# Altium schematic symbol library Connector - Rectangular.SchLib: 115 symbols (part 2 of 2)
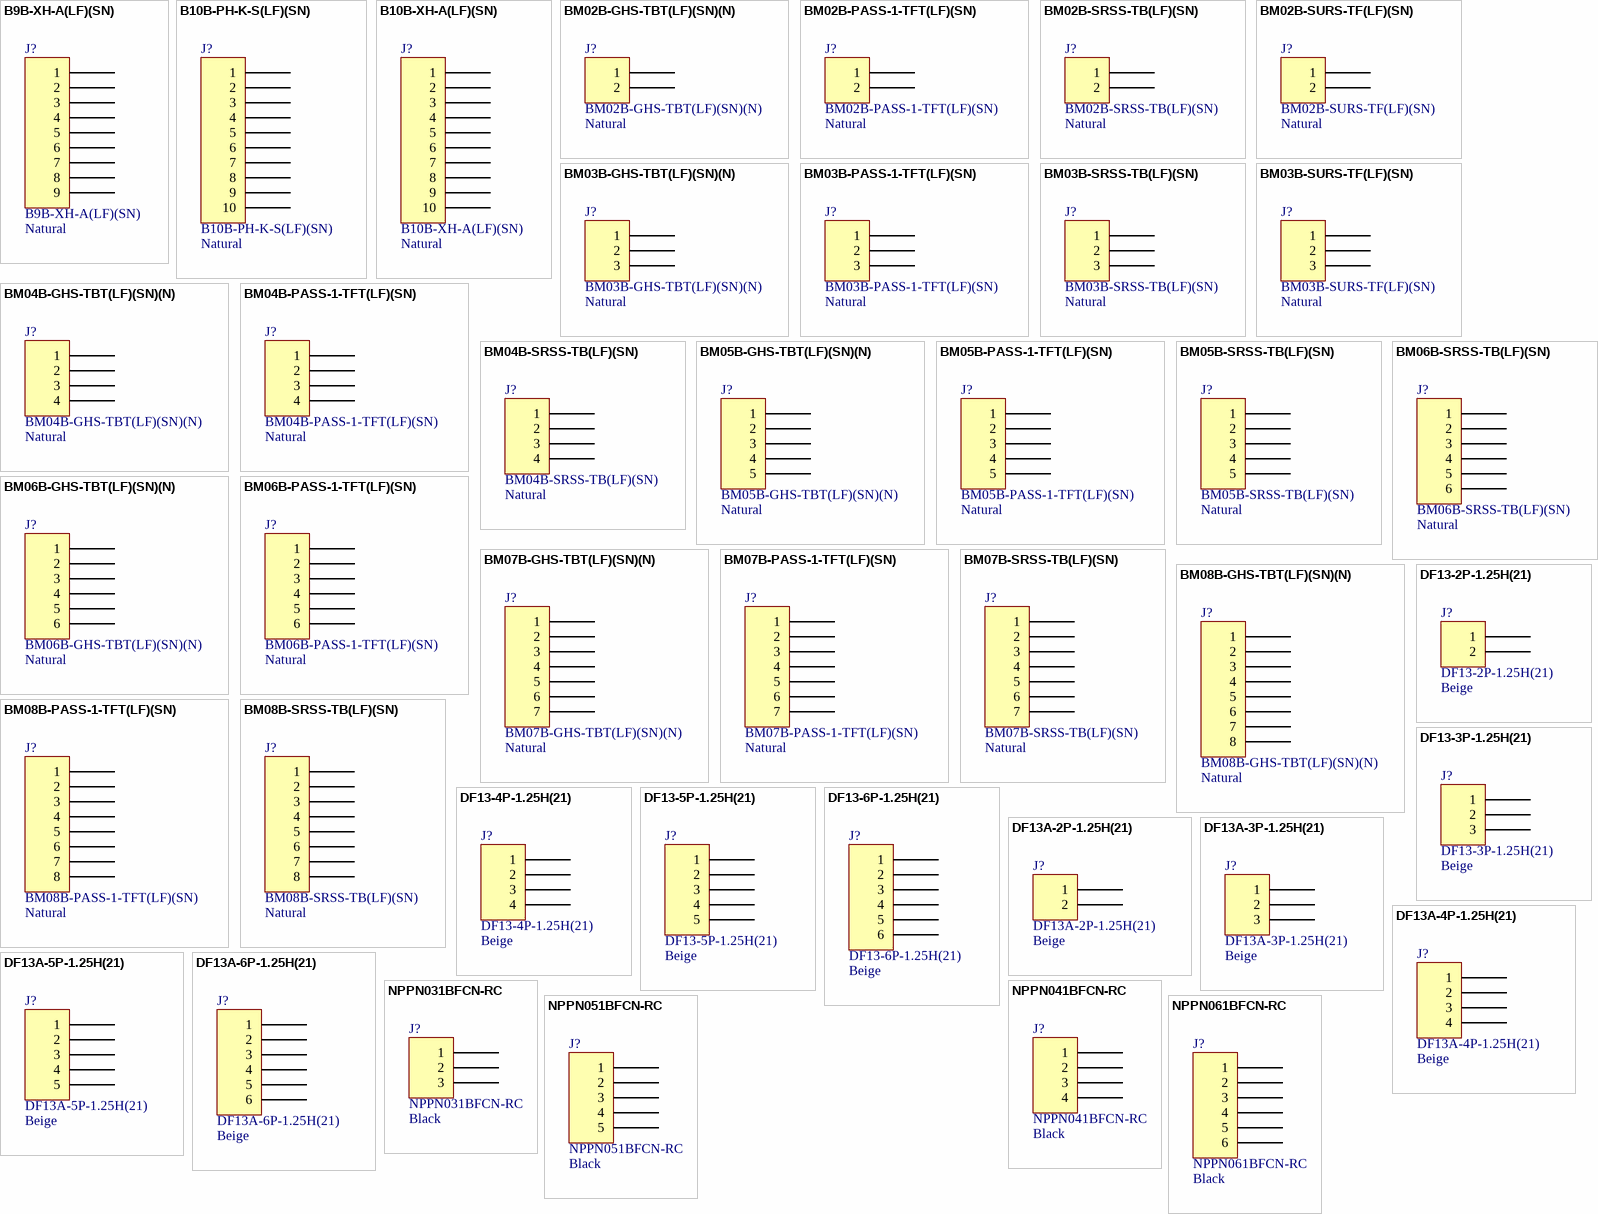
[diagram p3: symbols B9B-XH-A(LF)(SN) to NPPN061BFCN-RC]

## DF13A-3P-1.25H(21)
designator J?  Colour: Beige
CONN HDR 3POS 1.25MM R/A SMD; Manufacturer: Hirose Electric Co Ltd; Pitch: 0.049" (1.25mm); Number Of Positions: 3; Part Number: DF13A-3P-1.25H(21); PartId: 7795; Supplier 1: Digi-Key; Supplier Part Number 1: DF13A-3P-1.25H(21)-ND; ComponentLink1Description: Datasheet; ComponentLink1URL: http://www.hirose.co.jp/cataloge_hp/en_DF13_20130411.pdf; ComponentLink2Description: Digi-Key Listing; ComponentLink2URL: http://www.digikey.ca/product-detail/en/DF13A-3P-1.25H(21)/DF13A-3P-1.25H(21)-ND/4282219; Price: 0.3478; Type: Surface Mount, Right Angle; Number Of Rows: 1; Series: DF13
footprint HIROSE DF13A-3P-1.25H
pins: 1, 2, 3

## DF13A-4P-1.25H(21)
designator J?  Colour: Beige
CONN HDR 4POS 1.25MM R/A TIN; Manufacturer: Hirose Electric Co Ltd; Pitch: 0.049" (1.25mm); Number Of Positions: 4; Part Number: DF13A-4P-1.25H(21); PartId: 7797; Supplier 1: Digi-Key; Supplier Part Number 1: H125082-TR-ND; ComponentLink1Description: Datasheet; ComponentLink1URL: http://www.hirose.co.jp/cataloge_hp/en_DF13_20130411.pdf; ComponentLink2Description: Digi-Key Listing; ComponentLink2URL: http://www.digikey.ca/product-detail/en/DF13A-4P-1.25H(21)/H125082-TR-ND/4282224; Price: 0.4212; Type: Surface Mount, Right Angle; Number Of Rows: 1; Series: DF13
footprint HIROSE DF13A-4P-1.25H
pins: 1, 2, 3, 4

## DF13A-5P-1.25H(21)
designator J?  Colour: Beige
CONN HDR 5POS 1.25MM R/A SMD; Manufacturer: Hirose Electric Co Ltd; Pitch: 0.049" (1.25mm); Number Of Positions: 5; Part Number: DF13A-5P-1.25H(21); PartId: 7799; Supplier 1: Digi-Key; Supplier Part Number 1: DF13A-5P-1.25H(21)-ND; ComponentLink1Description: Datasheet; ComponentLink1URL: http://www.hirose.co.jp/cataloge_hp/en_DF13_20130411.pdf; ComponentLink2Description: Digi-Key Listing; ComponentLink2URL: http://www.digikey.ca/product-detail/en/DF13A-5P-1.25H(21)/DF13A-5P-1.25H(21)-ND/4282226; Price: 0.4591; Type: Surface Mount, Right Angle; Number Of Rows: 1; Series: DF13
footprint HIROSE DF13A-5P-1.25H
pins: 1, 2, 3, 4, 5

## DF13A-6P-1.25H(21)
designator J?  Colour: Beige
CONN HDR 6POS 1.25MM R/A TIN; Manufacturer: Hirose Electric Co Ltd; Pitch: 0.049" (1.25mm); Number Of Positions: 6; Part Number: DF13A-6P-1.25H(21); PartId: 7801; Supplier 1: Digi-Key; Supplier Part Number 1: DF13A-6P-1.25H(21)-ND; ComponentLink1Description: Datasheet; ComponentLink1URL: http://www.hirose.co.jp/cataloge_hp/en_DF13_20130411.pdf; ComponentLink2Description: Digi-Key Listing; ComponentLink2URL: http://www.digikey.ca/product-detail/en/DF13A-6P-1.25H(21)/DF13A-6P-1.25H(21)-ND/4282228; Price: 0.4969; Type: Surface Mount, Right Angle; Number Of Rows: 1; Series: DF13
footprint HIROSE DF13A-6P-1.25H
pins: 1, 2, 3, 4, 5, 6

## NPPN031BFCN-RC
designator J?  Colour: Black
CONN RECEPT 2MM SINGLE STR 3POS; Manufacturer: Sullins Connector Solutions; Pitch: 0.079" (2.00mm); Number Of Positions: 3; Part Number: NPPN031BFCN-RC; PartId: 10882; Supplier 1: Digi-Key; Supplier Part Number 1: S5751-03-ND; ComponentLink1Description: Datasheet; ComponentLink1URL: http://www.sullinscorp.com/drawings/75_1BFC_10483.pdf; ComponentLink2Description: Digi-Key Listing; ComponentLink2URL: http://www.digikey.com/product-detail/en/sullins-connector-solutions/NPPN031BFCN-RC/S5751-03-ND/804805; Price: 0.73; Type: Header; Contact Finish: Gold; Fastening Type: -; Number Of Rows: 1; Series: -
footprint SULLINS NPPN031BFCN
pins: 1, 2, 3

## NPPN041BFCN-RC
designator J?  Colour: Black
CONN RECEPT 2MM SINGLE STR 4POS; Manufacturer: Sullins Connector Solutions; Pitch: 0.079" (2.00mm); Number Of Positions: 4; Part Number: NPPN041BFCN-RC; PartId: 10883; Supplier 1: Digi-Key; Supplier Part Number 1: S5751-04-ND; ComponentLink1Description: Datasheet; ComponentLink1URL: http://www.sullinscorp.com/drawings/75_1BFC_10483.pdf; ComponentLink2Description: Digi-Key Listing; ComponentLink2URL: http://www.digikey.com/product-detail/en/sullins-connector-solutions/NPPN041BFCN-RC/S5751-04-ND/804806; Price: 0.89; Type: Header; Contact Finish: Gold; Fastening Type: -; Number Of Rows: 1; Series: -
footprint SULLINS NPPN041BFCN
pins: 1, 2, 3, 4

## NPPN051BFCN-RC
designator J?  Colour: Black
CONN RECEPT 2MM SINGLE STR 5POS; Manufacturer: Sullins Connector Solutions; Pitch: 0.079" (2.00mm); Number Of Positions: 5; Part Number: NPPN051BFCN-RC; PartId: 10884; Supplier 1: Digi-Key; Supplier Part Number 1: S5751-05-ND; ComponentLink1Description: Datasheet; ComponentLink1URL: http://www.sullinscorp.com/drawings/75_1BFC_10483.pdf; ComponentLink2Description: Digi-Key Listing; ComponentLink2URL: http://www.digikey.com/product-detail/en/sullins-connector-solutions/NPPN051BFCN-RC/S5751-05-ND/804807; Price: 0.88; Type: Header; Contact Finish: Gold; Fastening Type: -; Number Of Rows: 1; Series: -
footprint SULLINS NPPN051BFCN
pins: 1, 2, 3, 4, 5

## NPPN061BFCN-RC
designator J?  Colour: Black
CONN RECEPT 2MM SINGLE STR 6POS; Manufacturer: Sullins Connector Solutions; Pitch: 0.079" (2.00mm); Number Of Positions: 6; Part Number: NPPN061BFCN-RC; PartId: 10885; Supplier 1: Digi-Key; Supplier Part Number 1: S5751-06-ND; ComponentLink1Description: Datasheet; ComponentLink1URL: http://www.sullinscorp.com/drawings/75_1BFC_10483.pdf; ComponentLink2Description: Digi-Key Listing; ComponentLink2URL: http://www.digikey.com/product-detail/en/sullins-connector-solutions/NPPN061BFCN-RC/S5751-06-ND/804808; Price: 1.01; Type: Header; Contact Finish: Gold; Fastening Type: -; Number Of Rows: 1; Series: -
footprint SULLINS NPPN061BFCN
pins: 1, 2, 3, 4, 5, 6

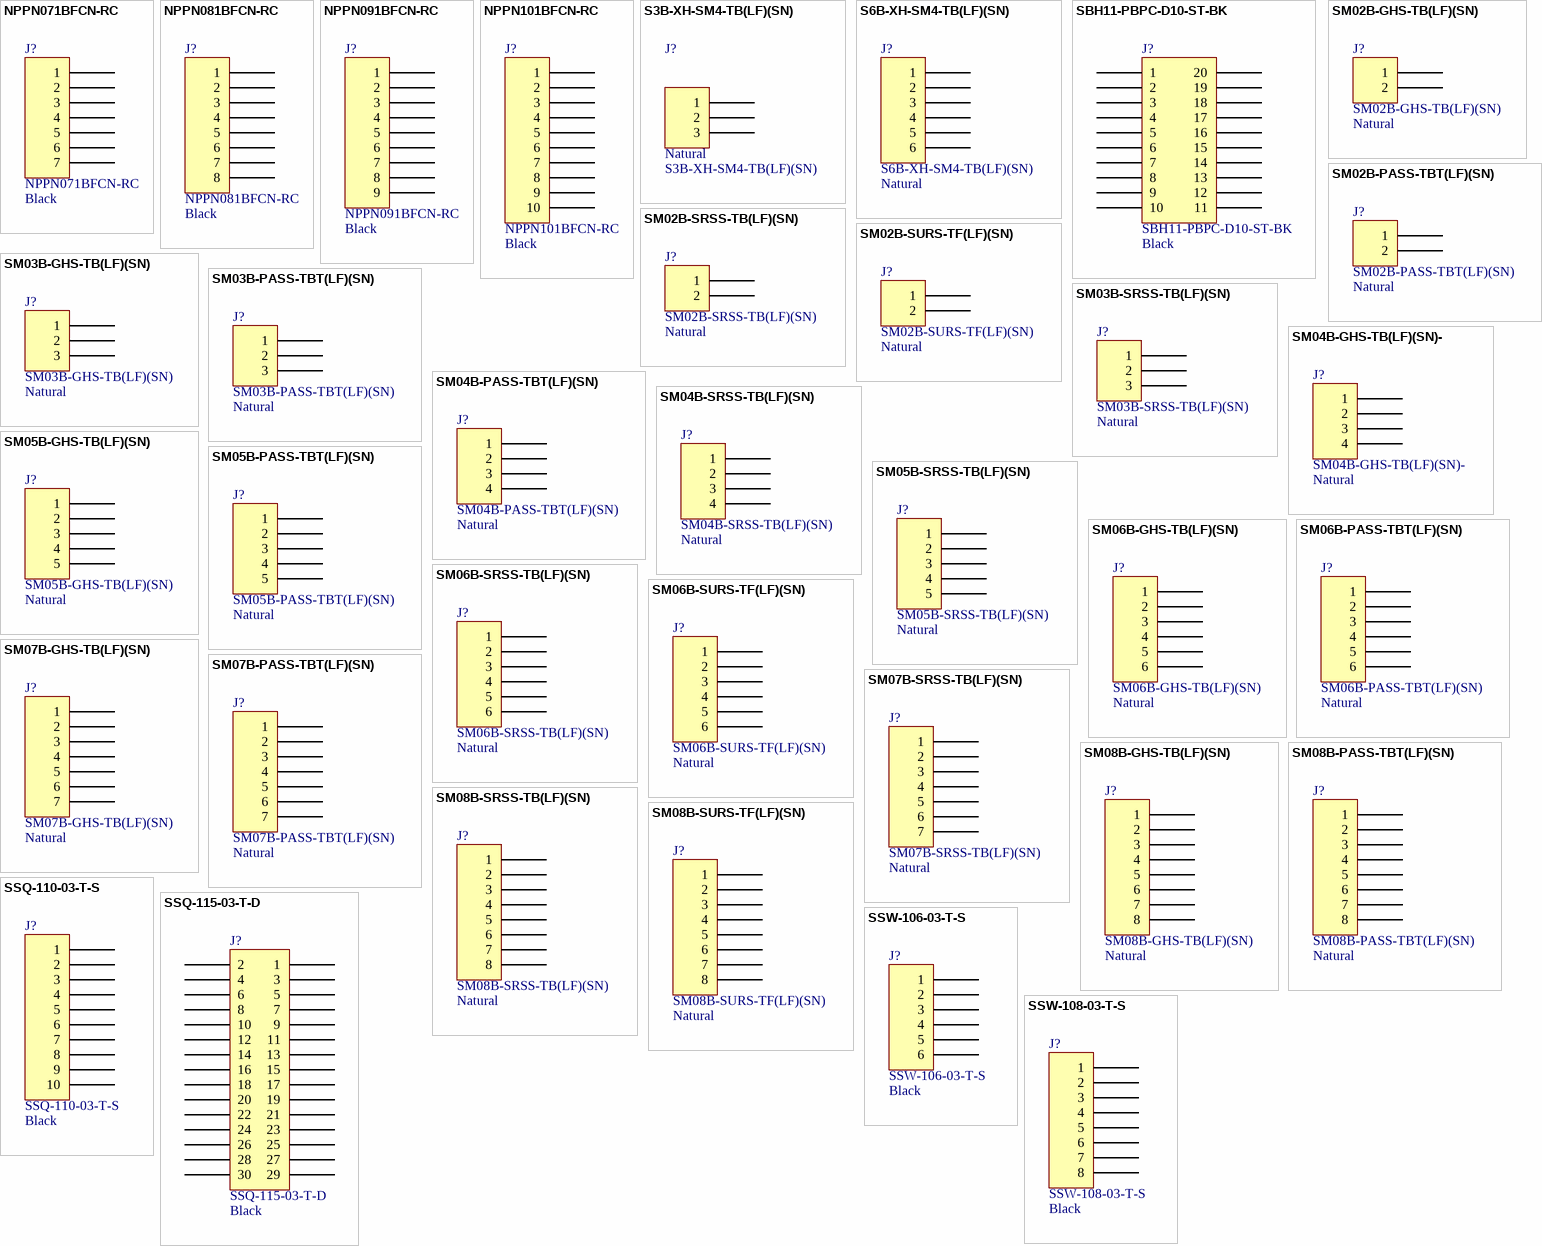
[diagram p2: symbols NPPN071BFCN-RC to SSW-108-03-T-S]

## NPPN071BFCN-RC
designator J?  Colour: Black
CONN RECEPT 2MM SINGLE STR 7POS; Manufacturer: Sullins Connector Solutions; Pitch: 0.079" (2.00mm); Number Of Positions: 7; Part Number: NPPN071BFCN-RC; PartId: 10886; Supplier 1: Digi-Key; Supplier Part Number 1: S5751-07-ND; ComponentLink1Description: Datasheet; ComponentLink1URL: http://www.sullinscorp.com/drawings/75_1BFC_10483.pdf; ComponentLink2Description: Digi-Key Listing; ComponentLink2URL: http://www.digikey.com/product-detail/en/sullins-connector-solutions/NPPN071BFCN-RC/S5751-07-ND/804809; Price: 1.04; Type: Header; Contact Finish: Gold; Fastening Type: -; Number Of Rows: 1; Series: -
footprint SULLINS NPPN071BFCN
pins: 1, 2, 3, 4, 5, 6, 7

## NPPN081BFCN-RC
designator J?  Colour: Black
CONN RECEPT 2MM SINGLE STR 8POS; Manufacturer: Sullins Connector Solutions; Pitch: 0.079" (2.00mm); Number Of Positions: 8; Part Number: NPPN081BFCN-RC; PartId: 10887; Supplier 1: Digi-Key; Supplier Part Number 1: S5751-08-ND; ComponentLink1Description: Datasheet; ComponentLink1URL: http://www.sullinscorp.com/drawings/75_1BFC_10483.pdf; ComponentLink2Description: Digi-Key Listing; ComponentLink2URL: http://www.digikey.com/product-detail/en/sullins-connector-solutions/NPPN081BFCN-RC/S5751-08-ND/804810; Price: 1.11; Type: Header; Contact Finish: Gold; Fastening Type: -; Number Of Rows: 1; Series: -
footprint SULLINS NPPN081BFCN
pins: 1, 2, 3, 4, 5, 6, 7, 8

## NPPN091BFCN-RC
designator J?  Colour: Black
CONN RECEPT 2MM SINGLE STR 9POS; Manufacturer: Sullins Connector Solutions; Pitch: 0.079" (2.00mm); Number Of Positions: 9; Part Number: NPPN091BFCN-RC; PartId: 10888; Supplier 1: Digi-Key; Supplier Part Number 1: S5751-09-ND; ComponentLink1Description: Datasheet; ComponentLink1URL: http://www.sullinscorp.com/drawings/75_1BFC_10483.pdf; ComponentLink2Description: Digi-Key Listing; ComponentLink2URL: http://www.digikey.com/product-detail/en/sullins-connector-solutions/NPPN091BFCN-RC/S5751-09-ND/804811; Price: 1.16; Type: Header; Contact Finish: Gold; Fastening Type: -; Number Of Rows: 1; Series: -
footprint SULLINS NPPN091BFCN
pins: 1, 2, 3, 4, 5, 6, 7, 8, 9

## NPPN101BFCN-RC
designator J?  Colour: Black
CONN RECEPT 2MM SINGLE STR 10POS; Manufacturer: Sullins Connector Solutions; Pitch: 0.079" (2.00mm); Number Of Positions: 10; Part Number: NPPN101BFCN-RC; PartId: 10889; Supplier 1: Digi-Key; Supplier Part Number 1: S5751-10-ND; ComponentLink1Description: Datasheet; ComponentLink1URL: http://www.sullinscorp.com/drawings/75_1BFC_10483.pdf; ComponentLink2Description: Digi-Key Listing; ComponentLink2URL: http://www.digikey.com/product-detail/en/sullins-connector-solutions/NPPN101BFCN-RC/S5751-10-ND/804812; Price: 1.23; Type: Header; Contact Finish: Gold; Fastening Type: -; Number Of Rows: 1; Series: -
footprint SULLINS NPPN101BFCN
pins: 1, 2, 3, 4, 5, 6, 7, 8, 9, 10

## S3B-XH-SM4-TB(LF)(SN)
designator J?  Colour: Natural
CONN HEADER XH TOP 3POS 2.5MM; Manufacturer: JST Sales America Inc.; Pitch: 0.098" (2.50mm); Number Of Positions: 6; Part Number: S3B-XH-SM4-TB(LF)(SN); Supplier 1: Digi-Key; Supplier Part Number 1: 455-2263-2-ND; ComponentLink1Description: Datasheet; ComponentLink1URL: http://www.jst-mfg.com/product/pdf/eng/eXH.pdf; ComponentLink2Description: Digi-Key Listing; ComponentLink2URL: https://www.digikey.com/product-detail/en/jst-sales-america-inc/S3B-XH-SM4-TB-LF-SN/455-2263-2-ND/1651065; Price: 1.03; Type: Header, Shrouded; Contact Finish: Tin; Fastening Type: Detent Lock; Number Of Rows: 1; Series: XH
footprint S3B-XH-SM4-TB (Footprint not found)
pins: 1, 2, 3

## S6B-XH-SM4-TB(LF)(SN)
designator J?  Colour: Natural
CONN HEADER XH TOP 6POS 2.5MM; Manufacturer: JST Sales America Inc.; Pitch: 0.098" (2.50mm); Number Of Positions: 6; Part Number: S6B-XH-SM4-TB(LF)(SN); Supplier 1: Digi-Key; Supplier Part Number 1: 455-2264-6-ND; ComponentLink1Description: Datasheet; ComponentLink1URL: http://www.jst-mfg.com/product/pdf/eng/eXH.pdf; ComponentLink2Description: Digi-Key Listing; ComponentLink2URL: https://www.digikey.com/product-detail/en/jst-sales-america-inc/S6B-XH-SM4-TB-LF-SN/455-2264-6-ND/1963638; Price: 1.03; Type: Header, Shrouded; Contact Finish: Tin; Fastening Type: Detent Lock; Number Of Rows: 1; Series: XH
footprint S6B-XH-SM4-TB
pins: 1, 2, 3, 4, 5, 6

## SBH11-PBPC-D10-ST-BK
designator J?  Colour: Black
CONN HEADER 2.54MM 20POS GOLD; Manufacturer: Sullins Connector Solutions; Pitch: 0.100" (2.54mm); Number Of Positions: 20; Part Number: SBH11-PBPC-D10-ST-BK; PartId: 16108; Supplier 1: Digi-Key; Supplier Part Number 1: S9172-ND; ComponentLink1Description: Datasheet; ComponentLink1URL: http://sullinscorp.com/catalogs/145_PAGE118_.100_SBH11_SERIES_MALE_BOX_HDR_ST_RA_SMT.pdf; ComponentLink2Description: Digi-Key Listing; ComponentLink2URL: http://www.digikey.ca/product-detail/en/sullins-connector-solutions/SBH11-PBPC-D10-ST-BK/S9172-ND/1990065; Price: 1; Type: Header, Shrouded; Contact Finish: Gold; Fastening Type: -; Number Of Rows: 2; Series: SBH11
footprint SULLINS SBH11-NBPC-D10-ST-BK
pins: 1, 2, 3, 4, 5, 6, 7, 8, 9, 10, 11, 12, 13, 14, 15, 16, 17, 18, 19, 20

## SM02B-GHS-TB(LF)(SN)
designator J?  Colour: Natural
CONN HEADER GH SIDE 2POS 1.25MM; Manufacturer: JST Sales America Inc.; Pitch: 0.049" (1.25mm); Number Of Positions: 2; Part Number: SM02B-GHS-TB(LF)(SN); PartId: 7817; Supplier 1: Digi-Key; Supplier Part Number 1: 455-1564-2-ND; ComponentLink1Description: Datasheet; ComponentLink1URL: http://www.jst-mfg.com/product/pdf/eng/eGH.pdf; ComponentLink2Description: Digi-Key Listing; ComponentLink2URL: http://www.digikey.ca/product-detail/en/SM02B-GHS-TB(LF)(SN)/455-1564-2-ND/807786; Price: 0.2487; Type: Surface Mount, Right Angle; Contact Finish: Tin; Fastening Type: Locking Ramp; Number Of Rows: 1; Series: GH
footprint JST SM02B-GHS-TB
pins: 1, 2

## SM02B-PASS-TBT(LF)(SN)
designator J?  Colour: Natural
CONN HEADER PA 2POS SIDE SMD; Manufacturer: JST Sales America Inc.; Pitch: 0.079" (2.00mm); Number Of Positions: 2; Part Number: SM02B-PASS-TBT(LF)(SN); PartId: 7856; Supplier 1: Digi-Key; Supplier Part Number 1: 455-2650-2-ND; ComponentLink1Description: Datasheet; ComponentLink1URL: http://www.jst-mfg.com/product/pdf/eng/ePA-F.pdf; ComponentLink2Description: Digi-Key Listing; ComponentLink2URL: http://www.digikey.ca/product-detail/en/SM02B-PASS-TBT(LF)(SN)/455-2650-2-ND/1788574; Price: 0.4208; Type: Surface Mount, Right Angle; Contact Finish: Tin; Fastening Type: Locking Ramp; Number Of Rows: 1; Series: PA
footprint JST SM02B-PASS-TB
pins: 1, 2

## SM02B-SRSS-TB(LF)(SN)
designator J?  Colour: Natural
CONN HEADER SH 2POS SIDE 1MM TIN; Manufacturer: JST Sales America Inc.; Pitch: 0.039" (1.00mm); Number Of Positions: 2; Part Number: SM02B-SRSS-TB(LF)(SN); PartId: 7831; Supplier 1: Digi-Key; Supplier Part Number 1: 455-1802-2-ND; ComponentLink1Description: Datasheet; ComponentLink1URL: http://www.jst-mfg.com/product/pdf/eng/eSH.pdf; ComponentLink2Description: Digi-Key Listing; ComponentLink2URL: http://www.digikey.ca/product-detail/en/SM02B-SRSS-TB(LF)(SN)/455-1802-2-ND/926708; Price: 0.2751; Type: Surface Mount, Right Angle; Contact Finish: Tin; Fastening Type: -; Number Of Rows: 1; Series: SR
footprint JST SM02B-SRSS-TB
pins: 1, 2

## SM02B-SURS-TF(LF)(SN)
designator J?  Colour: Natural
CONN HEADER 2POS .8MM TIN SIDE E; Manufacturer: JST Sales America Inc.; Pitch: 0.031" (0.80mm); Number Of Positions: 2; Part Number: SM02B-SURS-TF(LF)(SN); PartId: 7844; Supplier 1: Digi-Key; Supplier Part Number 1: 455-2039-2-ND; ComponentLink1Description: Datasheet; ComponentLink1URL: http://www.jst-mfg.com/product/pdf/eng/eSUR.pdf; ComponentLink2Description: Digi-Key Listing; ComponentLink2URL: http://www.digikey.ca/product-detail/en/SM02B-SURS-TF(LF)(SN)/455-2039-2-ND/1634780; Price: 0.3924; Type: Surface Mount, Right Angle; Contact Finish: Tin; Fastening Type: -; Number Of Rows: 1; Series: SUR
footprint JST SM02B-SURS-TF
pins: 1, 2

## SM03B-GHS-TB(LF)(SN)
designator J?  Colour: Natural
CONN HEADER GH SIDE 3POS 1.25MM; Manufacturer: JST Sales America Inc.; Pitch: 0.049" (1.25mm); Number Of Positions: 3; Part Number: SM03B-GHS-TB(LF)(SN); PartId: 7818; Supplier 1: Digi-Key; Supplier Part Number 1: 455-1565-2-ND; ComponentLink1Description: Datasheet; ComponentLink1URL: http://www.jst-mfg.com/product/pdf/eng/eGH.pdf; ComponentLink2Description: Digi-Key Listing; ComponentLink2URL: http://www.digikey.ca/product-detail/en/SM03B-GHS-TB(LF)(SN)/455-1565-2-ND/807787; Price: 0.2642; Type: Surface Mount, Right Angle; Contact Finish: Tin; Fastening Type: Locking Ramp; Number Of Rows: 1; Series: GH
footprint JST SM03B-GHS-TB
pins: 1, 2, 3

## SM03B-PASS-TBT(LF)(SN)
designator J?  Colour: Natural
CONN HEADER PA 3POS SIDE SMD; Manufacturer: JST Sales America Inc.; Pitch: 0.079" (2.00mm); Number Of Positions: 3; Part Number: SM03B-PASS-TBT(LF)(SN); PartId: 7857; Supplier 1: Digi-Key; Supplier Part Number 1: 455-2644-2-ND; ComponentLink1Description: Datasheet; ComponentLink1URL: http://www.jst-mfg.com/product/pdf/eng/ePA-F.pdf; ComponentLink2Description: Digi-Key Listing; ComponentLink2URL: http://www.digikey.ca/product-detail/en/SM03B-PASS-TBT(LF)(SN)/455-2644-2-ND/2773426; Price: 0.5567; Type: Surface Mount, Right Angle; Contact Finish: Tin; Fastening Type: Locking Ramp; Number Of Rows: 1; Series: PA
footprint JST SM03B-PASS-TB
pins: 1, 2, 3

## SM03B-SRSS-TB(LF)(SN)
designator J?  Colour: Natural
CONN HEADER SH 3POS SIDE 1MM TIN; Manufacturer: JST Sales America Inc.; Pitch: 0.039" (1.00mm); Number Of Positions: 3; Part Number: SM03B-SRSS-TB(LF)(SN); PartId: 7832; Supplier 1: Digi-Key; Supplier Part Number 1: 455-1803-2-ND; ComponentLink1Description: Datasheet; ComponentLink1URL: http://www.jst-mfg.com/product/pdf/eng/eSH.pdf; ComponentLink2Description: Digi-Key Listing; ComponentLink2URL: http://www.digikey.ca/product-detail/en/SM03B-SRSS-TB(LF)(SN)/455-1803-2-ND/926709; Price: 0.3069; Type: Surface Mount, Right Angle; Contact Finish: Tin; Fastening Type: -; Number Of Rows: 1; Series: SR
footprint JST SM03B-SRSS-TB
pins: 1, 2, 3

## SM04B-GHS-TB(LF)(SN)-
designator J?  Colour: Natural
CONN HEADER GH SIDE 4POS 1.25MM; Manufacturer: JST Sales America Inc.; Pitch: 0.049" (1.25mm); Number Of Positions: 4; Part Number: SM04B-GHS-TB(LF)(SN)-; PartId: 7821; Supplier 1: Digi-Key; Supplier Part Number 1: 455-1566-2-ND; ComponentLink1Description: Datasheet; ComponentLink1URL: http://www.jst-mfg.com/product/pdf/eng/eGH.pdf; ComponentLink2Description: Digi-Key Listing; ComponentLink2URL: http://www.digikey.ca/product-detail/en/SM04B-GHS-TB(LF)(SN)-/455-1566-2-ND/807788; Price: 0.2802; Type: Surface Mount, Right Angle; Contact Finish: Tin; Fastening Type: Locking Ramp; Number Of Rows: 1; Series: GH
footprint JST SM04B-GHS-TB
pins: 1, 2, 3, 4

## SM04B-PASS-TBT(LF)(SN)
designator J?  Colour: Natural
CONN HEADER PA 4POS SIDE SMD; Manufacturer: JST Sales America Inc.; Pitch: 0.079" (2.00mm); Number Of Positions: 4; Part Number: SM04B-PASS-TBT(LF)(SN); PartId: 7858; Supplier 1: Digi-Key; Supplier Part Number 1: 455-2645-2-ND; ComponentLink1Description: Datasheet; ComponentLink1URL: http://www.jst-mfg.com/product/pdf/eng/ePA-F.pdf; ComponentLink2Description: Digi-Key Listing; ComponentLink2URL: http://www.digikey.ca/product-detail/en/SM04B-PASS-TBT(LF)(SN)/455-2645-2-ND/2773427; Price: 0.5853; Type: Surface Mount, Right Angle; Contact Finish: Tin; Fastening Type: Locking Ramp; Number Of Rows: 1; Series: PA
footprint JST SM04B-PASS-TB
pins: 1, 2, 3, 4

## SM04B-SRSS-TB(LF)(SN)
designator J?  Colour: Natural
CONN HEADER SH 4POS SIDE 1MM TIN; Manufacturer: JST Sales America Inc.; Pitch: 0.039" (1.00mm); Number Of Positions: 4; Part Number: SM04B-SRSS-TB(LF)(SN); PartId: 7835; Supplier 1: Digi-Key; Supplier Part Number 1: 455-1804-2-ND; ComponentLink1Description: Datasheet; ComponentLink1URL: http://www.jst-mfg.com/product/pdf/eng/eSH.pdf; ComponentLink2Description: Digi-Key Listing; ComponentLink2URL: http://www.digikey.ca/product-detail/en/SM04B-SRSS-TB(LF)(SN)/455-1804-2-ND/926710; Price: 0.3531; Type: Surface Mount, Right Angle; Contact Finish: Tin; Fastening Type: -; Number Of Rows: 1; Series: SR
footprint JST SM04B-SRSS-TB
pins: 1, 2, 3, 4

## SM05B-GHS-TB(LF)(SN)
designator J?  Colour: Natural
CONN HEADER GH SIDE 5POS 1.25MM; Manufacturer: JST Sales America Inc.; Pitch: 0.049" (1.25mm); Number Of Positions: 5; Part Number: SM05B-GHS-TB(LF)(SN); PartId: 7823; Supplier 1: Digi-Key; Supplier Part Number 1: 455-1567-2-ND; ComponentLink1Description: Datasheet; ComponentLink1URL: http://www.jst-mfg.com/product/pdf/eng/eGH.pdf; ComponentLink2Description: Digi-Key Listing; ComponentLink2URL: http://www.digikey.ca/product-detail/en/SM05B-GHS-TB(LF)(SN)/455-1567-2-ND/807789; Price: 0.295; Type: Surface Mount, Right Angle; Contact Finish: Tin; Fastening Type: Locking Ramp; Number Of Rows: 1; Series: GH
footprint JST SM05B-GHS-TB
pins: 1, 2, 3, 4, 5

## SM05B-PASS-TBT(LF)(SN)
designator J?  Colour: Natural
CONN HEADER PA 5POS SIDE SMD; Manufacturer: JST Sales America Inc.; Pitch: 0.079" (2.00mm); Number Of Positions: 5; Part Number: SM05B-PASS-TBT(LF)(SN); PartId: 7859; Supplier 1: Digi-Key; Supplier Part Number 1: 455-2646-2-ND; ComponentLink1Description: Datasheet; ComponentLink1URL: http://www.jst-mfg.com/product/pdf/eng/ePA-F.pdf; ComponentLink2Description: Digi-Key Listing; ComponentLink2URL: http://www.digikey.ca/product-detail/en/SM05B-PASS-TBT(LF)(SN)/455-2646-2-ND/2773428; Price: 0.6001; Type: Surface Mount, Right Angle; Contact Finish: Tin; Fastening Type: Locking Ramp; Number Of Rows: 1; Series: PA
footprint JST SM05B-PASS-TB
pins: 1, 2, 3, 4, 5

## SM05B-SRSS-TB(LF)(SN)
designator J?  Colour: Natural
CONN HEADER SH 5POS SIDE 1MM TIN; Manufacturer: JST Sales America Inc.; Pitch: 0.039" (1.00mm); Number Of Positions: 5; Part Number: SM05B-SRSS-TB(LF)(SN); PartId: 7836; Supplier 1: Digi-Key; Supplier Part Number 1: 455-1805-2-ND; ComponentLink1Description: Datasheet; ComponentLink1URL: http://www.jst-mfg.com/product/pdf/eng/eSH.pdf; ComponentLink2Description: Digi-Key Listing; ComponentLink2URL: http://www.digikey.ca/product-detail/en/SM05B-SRSS-TB(LF)(SN)/455-1805-2-ND/926711; Price: 0.4383; Type: Surface Mount, Right Angle; Contact Finish: Tin; Fastening Type: -; Number Of Rows: 1; Series: SR
footprint JST SM05B-SRSS-TB
pins: 1, 2, 3, 4, 5

## SM06B-GHS-TB(LF)(SN)
designator J?  Colour: Natural
CONN HEADER GH SIDE 6POS 1.25MM; Manufacturer: JST Sales America Inc.; Pitch: 0.049" (1.25mm); Number Of Positions: 6; Part Number: SM06B-GHS-TB(LF)(SN); PartId: 7825; Supplier 1: Digi-Key; Supplier Part Number 1: 455-1568-2-ND; ComponentLink1Description: Datasheet; ComponentLink1URL: http://www.jst-mfg.com/product/pdf/eng/eGH.pdf; ComponentLink2Description: Digi-Key Listing; ComponentLink2URL: http://www.digikey.ca/product-detail/en/SM06B-GHS-TB(LF)(SN)/455-1568-2-ND/807790; Price: 0.3381; Type: Surface Mount, Right Angle; Contact Finish: Tin; Fastening Type: Locking Ramp; Number Of Rows: 1; Series: GH
footprint JST SM06B-GHS-TB
pins: 1, 2, 3, 4, 5, 6

## SM06B-PASS-TBT(LF)(SN)
designator J?  Colour: Natural
CONN HEADER PA 6POS SIDE SMD; Manufacturer: JST Sales America Inc.; Pitch: 0.079" (2.00mm); Number Of Positions: 6; Part Number: SM06B-PASS-TBT(LF)(SN); PartId: 7860; Supplier 1: Digi-Key; Supplier Part Number 1: 455-2647-2-ND; ComponentLink1Description: Datasheet; ComponentLink1URL: http://www.jst-mfg.com/product/pdf/eng/ePA-F.pdf; ComponentLink2Description: Digi-Key Listing; ComponentLink2URL: http://www.digikey.ca/product-detail/en/SM06B-PASS-TBT(LF)(SN)/455-2647-2-ND/2773429; Price: 0.6619; Type: Surface Mount, Right Angle; Contact Finish: Tin; Fastening Type: Locking Ramp; Number Of Rows: 1; Series: PA
footprint JST SM06B-PASS-TB
pins: 1, 2, 3, 4, 5, 6

## SM06B-SRSS-TB(LF)(SN)
designator J?  Colour: Natural
CONN HEADER SH 6POS SIDE 1MM TIN; Manufacturer: JST Sales America Inc.; Pitch: 0.039" (1.00mm); Number Of Positions: 6; Part Number: SM06B-SRSS-TB(LF)(SN); PartId: 7839; Supplier 1: Digi-Key; Supplier Part Number 1: 455-1806-2-ND; ComponentLink1Description: Datasheet; ComponentLink1URL: http://www.jst-mfg.com/product/pdf/eng/eSH.pdf; ComponentLink2Description: Digi-Key Listing; ComponentLink2URL: http://www.digikey.ca/product-detail/en/SM06B-SRSS-TB(LF)(SN)/455-1806-2-ND/926712; Price: 0.4855; Type: Surface Mount, Right Angle; Contact Finish: Tin; Fastening Type: -; Number Of Rows: 1; Series: SR
footprint JST SM06B-SRSS-TB
pins: 1, 2, 3, 4, 5, 6

## SM06B-SURS-TF(LF)(SN)
designator J?  Colour: Natural
CONN HEADER SUR 6POS .8MM IDC; Manufacturer: JST Sales America Inc.; Pitch: 0.031" (0.80mm); Number Of Positions: 6; Part Number: SM06B-SURS-TF(LF)(SN); PartId: 7847; Supplier 1: Digi-Key; Supplier Part Number 1: SM06B-SURS-TF(LF)(SN)-ND; ComponentLink1Description: Datasheet; ComponentLink1URL: http://www.jst-mfg.com/product/pdf/eng/eSUR.pdf; ComponentLink2Description: Digi-Key Listing; ComponentLink2URL: http://www.digikey.ca/product-detail/en/SM06B-SURS-TF(LF)(SN)/SM06B-SURS-TF(LF)(SN)-ND/1989313; Price: 0.59; Type: Surface Mount, Right Angle; Contact Finish: Tin; Fastening Type: -; Number Of Rows: 1; Series: SUR
footprint JST SM06B-SURS-TF
pins: 1, 2, 3, 4, 5, 6

## SM07B-GHS-TB(LF)(SN)
designator J?  Colour: Natural
CONN HEADER GH SIDE 7POS 1.25MM; Manufacturer: JST Sales America Inc.; Pitch: 0.049" (1.25mm); Number Of Positions: 7; Part Number: SM07B-GHS-TB(LF)(SN); PartId: 7826; Supplier 1: Digi-Key; Supplier Part Number 1: 455-1569-2-ND; ComponentLink1Description: Datasheet; ComponentLink1URL: http://www.jst-mfg.com/product/pdf/eng/eGH.pdf; ComponentLink2Description: Digi-Key Listing; ComponentLink2URL: http://www.digikey.ca/product-detail/en/SM07B-GHS-TB(LF)(SN)/455-1569-2-ND/807791; Price: 0.3513; Type: Surface Mount, Right Angle; Contact Finish: Tin; Fastening Type: Locking Ramp; Number Of Rows: 1; Series: GH
footprint JST SM07B-GHS-TB
pins: 1, 2, 3, 4, 5, 6, 7

## SM07B-PASS-TBT(LF)(SN)
designator J?  Colour: Natural
CONN HEADER PA 7POS SIDE SMD; Manufacturer: JST Sales America Inc.; Pitch: 0.079" (2.00mm); Number Of Positions: 7; Part Number: SM07B-PASS-TBT(LF)(SN); PartId: 7861; Supplier 1: Digi-Key; Supplier Part Number 1: 455-2648-2-ND; ComponentLink1Description: Datasheet; ComponentLink1URL: http://www.jst-mfg.com/product/pdf/eng/ePA-F.pdf; ComponentLink2Description: Digi-Key Listing; ComponentLink2URL: http://www.digikey.ca/product-detail/en/SM07B-PASS-TBT(LF)(SN)/455-2648-2-ND/2773430; Price: 0.7292; Type: Surface Mount, Right Angle; Contact Finish: Tin; Fastening Type: Locking Ramp; Number Of Rows: 1; Series: PA
footprint JST SM07B-PASS-TB
pins: 1, 2, 3, 4, 5, 6, 7

## SM07B-SRSS-TB(LF)(SN)
designator J?  Colour: Natural
CONN HEADER SH 7POS SIDE 1MM TIN; Manufacturer: JST Sales America Inc.; Pitch: 0.039" (1.00mm); Number Of Positions: 7; Part Number: SM07B-SRSS-TB(LF)(SN); PartId: 7840; Supplier 1: Digi-Key; Supplier Part Number 1: 455-1807-2-ND; ComponentLink1Description: Datasheet; ComponentLink1URL: http://www.jst-mfg.com/product/pdf/eng/eSH.pdf; ComponentLink2Description: Digi-Key Listing; ComponentLink2URL: http://www.digikey.ca/product-detail/en/SM07B-SRSS-TB(LF)(SN)/455-1807-2-ND/926713; Price: 0.5322; Type: Surface Mount, Right Angle; Contact Finish: Tin; Fastening Type: -; Number Of Rows: 1; Series: SR
footprint JST SM07B-SRSS-TB
pins: 1, 2, 3, 4, 5, 6, 7

## SM08B-GHS-TB(LF)(SN)
designator J?  Colour: Natural
CONN HEADER GH SIDE 8POS 1.25MM; Manufacturer: JST Sales America Inc.; Pitch: 0.049" (1.25mm); Number Of Positions: 8; Part Number: SM08B-GHS-TB(LF)(SN); PartId: 7828; Supplier 1: Digi-Key; Supplier Part Number 1: 455-1570-2-ND; ComponentLink1Description: Datasheet; ComponentLink1URL: http://www.jst-mfg.com/product/pdf/eng/eGH.pdf; ComponentLink2Description: Digi-Key Listing; ComponentLink2URL: http://www.digikey.ca/product-detail/en/SM08B-GHS-TB(LF)(SN)/455-1570-2-ND/807792; Price: 0.3767; Type: Surface Mount, Right Angle; Contact Finish: Tin; Fastening Type: Locking Ramp; Number Of Rows: 1; Series: GH
footprint JST SM08B-GHS-TB
pins: 1, 2, 3, 4, 5, 6, 7, 8

## SM08B-PASS-TBT(LF)(SN)
designator J?  Colour: Natural
CONN HEADER PA 8POS SIDE SMD; Manufacturer: JST Sales America Inc.; Pitch: 0.079" (2.00mm); Number Of Positions: 8; Part Number: SM08B-PASS-TBT(LF)(SN); PartId: 7862; Supplier 1: Digi-Key; Supplier Part Number 1: 455-2649-2-ND; ComponentLink1Description: Datasheet; ComponentLink1URL: http://www.jst-mfg.com/product/pdf/eng/ePA-F.pdf; ComponentLink2Description: Digi-Key Listing; ComponentLink2URL: http://www.digikey.ca/product-detail/en/SM08B-PASS-TBT(LF)(SN)/455-2649-2-ND/2773431; Price: 0.7931; Type: Surface Mount, Right Angle; Contact Finish: Tin; Fastening Type: Locking Ramp; Number Of Rows: 1; Series: PA
footprint JST SM08B-PASS-TB
pins: 1, 2, 3, 4, 5, 6, 7, 8

## SM08B-SRSS-TB(LF)(SN)
designator J?  Colour: Natural
CONN HEADER SH 8POS SIDE 1MM TIN; Manufacturer: JST Sales America Inc.; Pitch: 0.039" (1.00mm); Number Of Positions: 8; Part Number: SM08B-SRSS-TB(LF)(SN); PartId: 7843; Supplier 1: Digi-Key; Supplier Part Number 1: 455-1808-2-ND; ComponentLink1Description: Datasheet; ComponentLink1URL: http://www.jst-mfg.com/product/pdf/eng/eSH.pdf; ComponentLink2Description: Digi-Key Listing; ComponentLink2URL: http://www.digikey.ca/product-detail/en/SM08B-SRSS-TB(LF)(SN)/455-1808-2-ND/926714; Price: 0.5596; Type: Surface Mount, Right Angle; Contact Finish: Tin; Fastening Type: -; Number Of Rows: 1; Series: SR
footprint JST SM08B-SRSS-TB
pins: 1, 2, 3, 4, 5, 6, 7, 8

## SM08B-SURS-TF(LF)(SN)
designator J?  Colour: Natural
CONN HEADER 8POS .8MM TIN SIDE E; Manufacturer: JST Sales America Inc.; Pitch: 0.031" (0.80mm); Number Of Positions: 8; Part Number: SM08B-SURS-TF(LF)(SN); PartId: 7848; Supplier 1: Digi-Key; Supplier Part Number 1: 455-2040-2-ND; ComponentLink1Description: Datasheet; ComponentLink1URL: http://www.jst-mfg.com/product/pdf/eng/eSUR.pdf; ComponentLink2Description: Digi-Key Listing; ComponentLink2URL: http://www.digikey.ca/product-detail/en/SM08B-SURS-TF(LF)(SN)/455-2040-2-ND/1634781; Price: 0.7439; Type: Surface Mount, Right Angle; Contact Finish: Tin; Fastening Type: -; Number Of Rows: 1; Series: SUR
footprint JST SM08B-SURS-TF
pins: 1, 2, 3, 4, 5, 6, 7, 8

## SSQ-110-03-T-S
designator J?  Colour: Black
CONN RCPT .100" LONG 10POS SNGL TIN; Manufacturer: Samtec Inc.; Pitch: 0.100" (2.54mm); Number Of Positions: 10; Part Number: SSQ-110-03-T-S; PartId: 9298; Supplier 1: Digi-Key; Supplier Part Number 1: SAM1206-10-ND; ComponentLink1Description: Datasheet; ComponentLink1URL: http://suddendocs.samtec.com/prints/ssq-1xx-xx-xxx-x-xx-xxx-xx-x-mkt.pdf; ComponentLink2Description: Digi-Key Listing; ComponentLink2URL: http://www.digikey.com/product-detail/en/SSQ-110-03-T-S/SAM1206-10-ND/1111948; Price: 0; Type: Receptacle; Contact Finish: Tin; Fastening Type: -; Number Of Rows: 1
footprint SAMTEC SSW-110-03-T-S
pins: 1, 2, 3, 4, 5, 6, 7, 8, 9, 10

## SSQ-115-03-T-D
designator J?  Colour: Black
CONN RCPT .100" LONG 30POS DUAL TIN; Manufacturer: Samtec Inc.; Pitch: 0.100" (2.54mm); Number Of Positions: 30; Part Number: SSQ-115-03-T-D; PartId: 9299; Supplier 1: Digi-Key; Supplier Part Number 1: SAM1204-15-ND; ComponentLink1Description: Datasheet; ComponentLink1URL: http://suddendocs.samtec.com/prints/ssq-1xx-xx-xxx-x-xx-xxx-xx-x-mkt.pdf; ComponentLink2Description: Digi-Key Listing; ComponentLink2URL: http://www.digikey.com/product-detail/en/SSQ-115-03-T-D/SAM1204-15-ND/1111845; Price: 3.74; Type: Receptacle; Contact Finish: Tin; Fastening Type: -; Number Of Rows: 2
footprint Samtec SSQ-115-03-T-D
pins: 1, 2, 3, 4, 5, 6, 7, 8, 9, 10, 11, 12, 13, 14, 15, 16, 17, 18, 19, 20, 21, 22, 23, 24, 25, 26, 27, 28, 29, 30

## SSW-106-03-T-S
designator J?  Colour: Black
CONN RCPT .100" LONG 6POS SNGL TIN; Manufacturer: Samtec Inc.; Pitch: 0.100" (2.54mm); Number Of Positions: 6; Part Number: SSW-106-03-T-S; PartId: 9296; Supplier 1: Digi-Key; Supplier Part Number 1: SAM8865-ND; ComponentLink1Description: Datasheet; ComponentLink1URL: http://suddendocs.samtec.com/prints/ssw-1xx-xx-xxx-x-xx-xxx-xx-mkt.pdf; ComponentLink2Description: Digi-Key Listing; ComponentLink2URL: http://www.digikey.com/product-detail/en/SSW-106-03-T-S/SAM8865-ND/1790202; Price: 0.89; Type: Receptacle; Contact Finish: Tin; Fastening Type: -; Number Of Rows: 1
footprint SAMTEC SSW-106-03-T-S
pins: 1, 2, 3, 4, 5, 6

## SSW-108-03-T-S
designator J?  Colour: Black
CONN RCPT .100" LONG 8POS SNGL TIN; Manufacturer: Samtec Inc.; Pitch: 0.100" (2.54mm); Number Of Positions: 8; Part Number: SSW-108-03-T-S; PartId: 9297; Supplier 1: Digi-Key; Supplier Part Number 1: SAM8866-ND; ComponentLink1Description: Datasheet; ComponentLink1URL: http://suddendocs.samtec.com/prints/ssw-1xx-xx-xxx-x-xx-xxx-xx-mkt.pdf; ComponentLink2Description: Digi-Key Listing; ComponentLink2URL: http://www.digikey.com/product-detail/en/SSW-108-03-T-S/SAM8866-ND/1790200; Price: 1.01; Type: Receptacle; Contact Finish: Tin; Fastening Type: -; Number Of Rows: 1
footprint SAMTEC SSW-108-03-T-S
pins: 1, 2, 3, 4, 5, 6, 7, 8